# Altium schematic symbol library Res1 10k.SCHLIB: 1 symbol
Pins are listed as number, name and electrical type; pins without a type are passive.

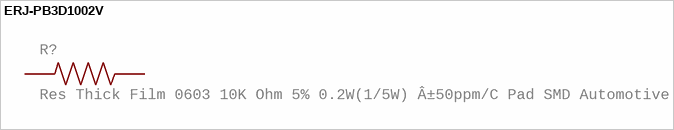
[diagram p0: symbol ERJ-PB3D1002V]

## ERJ-PB3D1002V
designator R?, comment Res Thick Film 0603 10K Ohm 5% 0.2W(1/5W) Â±50ppm/C Pad SMD Automotive T/R
GateName_1: G$1; SymbolName_1: ERJ-PB3D1002V; Description: 10 kOhms ±0.5% 0.2W, 1/5W Chip Resistor 0603 (1608 Metric) Automotive AEC-Q200, Pulse Withstanding Thick Film; MF: Panasonic Electronic; LibraryName: Res1 10k; DeviceSetName: ERJ-PB3D1002V; Package: RESC1608X55N; MP: ERJ-PB3D1002V; Package: 1608 Panasonic Electronic Components
footprint RESC1608X55N
pins: 1, 2